# Altium schematic symbol library Component_Schematics.SchLib: 8 symbols
Pins are listed as number, name and electrical type; pins without a type are passive.

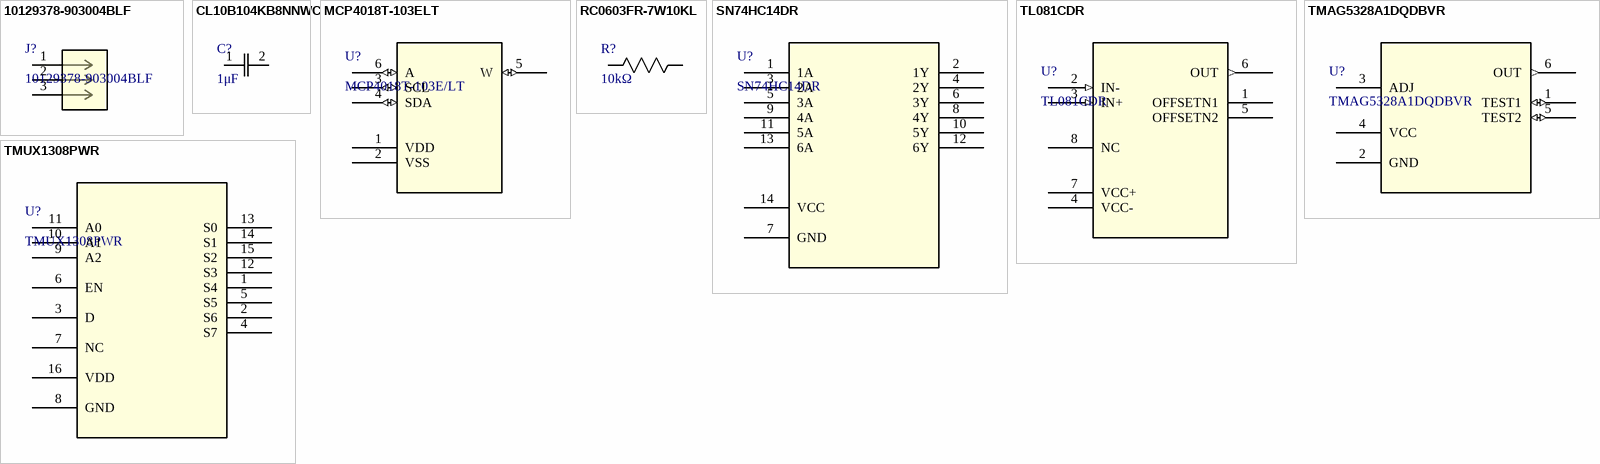
[diagram p0: symbols 10129378-903004BLF to TMUX1308PWR]

## 10129378-903004BLF
designator J?
No Description Available; Mfr_Name: Amphenol ICC; Copyright: Copyright (C) 2024 Ultra Librarian. All rights reserved.; Manufacturer_Part_Number: 10129378-903004BLF; RefDes: RefDes; Type: DEV; Supplier 1: Digikey; Supplier Part Number 1: 10129378-903004BLF-ND
footprint CONN_10129378-903004BLF_AMP
pins: 1, 2, 3

## CL10B104KB8NNWC
designator C?, comment 1μF
No Description Available; Mfr_Name: Samsung; Digi-Key_Part_Number_3: 1276-1935-6-ND; Digi-Key_Part_Number_2: 1276-1935-1-ND; Digi-Key_Part_Number_1: 1276-1935-2-ND; Supplier 1: Digi-Key; Supplier Part Number 1: 1276-1935-6-ND; Supplier 2: Mouser; Supplier Part Number 2: 187-CL10B104KB8NNWC
footprint CAP_CL10_SAM
simulation model C_Capacitor_Default (Model Description)
pins: 1, 2

## MCP4018T-103ELT
designator U?, comment MCP4018T-103E/LT
No Description Available; Mfr_Name: Microchip; Copyright: Copyright (C) 2023 Ultra Librarian. All rights reserved.; Manufacturer_Part_Number: MCP4018T-103E/LT; RefDes: RefDes; Type: DEV; Supplier 1: Mouser; Supplier Part Number 1: 579-MCP4018T103E/LT; Supplier 2: Digi-Key; Supplier Part Number 2: MCP4018T-103E/LTCT-ND
footprint SC70-6_MC_MCH
pins: 1 VDD (power), 2 VSS (power), 3 SCL (io), 4 SDA (io), 5 W (io), 6 A (io)

## RC0603FR-7W10KL
designator R?, comment 10kΩ
No Description Available; Mfr_Name: Yageo; Manufacturer_Part_Number: RC0603FR-7W10KL; Copyright: Copyright (C) 2023 Ultra Librarian. All rights reserved.; RefDes: RefDes; Type: DEV; Supplier 1: Mouser; Supplier Part Number 1: 603-RC0603FR-7W10KL; Supplier 2: Digi-Key; Supplier Part Number 2: 13-RC0603FR-7W10KLCT-ND
footprint RES_RC0603_YAG
simulation model R_Resistor_Default (Model Description)
pins: 1, 2

## SN74HC14DR
designator U?
No Description Available; Mfr_Name: Texas Instruments; Digi-Key_Part_Number_4: 2156-SN74HC14DR-ND; Digi-Key_Part_Number_3: 296-1194-6-ND; Digi-Key_Part_Number_1: 296-1194-1-ND; Digi-Key_Part_Number_2: 296-1194-2-ND; RefDes: RefDes; Type: Type; Supplier 1: Mouser; Supplier Part Number 1: 595-SN74HC14DR; Supplier 2: Digi-Key; Supplier Part Number 2: 296-1194-1-ND
footprint D14
simulation model SN74HC14 (Model Description)
pins: 1 1A, 2 1Y, 3 2A, 4 2Y, 5 3A, 6 3Y, 7 GND (power), 8 4Y, 9 4A, 10 5Y, 11 5A, 12 6Y, 13 6A, 14 VCC (power)

## TL081CDR
designator U?
No Description Available; Mfr_Name: Texas Instruments; Copyright: Copyright (C) 2023 Ultra Librarian. All rights reserved.; Manufacturer_Part_Number: TL081CDR; RefDes: RefDes; Type: DEV; Supplier 1: Mouser; Supplier Part Number 1: 595-TL081CDR; Supplier 2: Digi-Key; Supplier Part Number 2: 296-15001-1-ND
footprint D8
simulation model TL081 (Model Description)
pins: 1 OFFSETN1, 2 IN- (in), 3 IN+ (in), 4 VCC- (power), 5 OFFSETN2, 6 OUT (out), 7 VCC+ (power), 8 NC

## TMAG5328A1DQDBVR
designator U?
No Description Available; Mfr_Name: Texas Instruments; Copyright: Copyright (C) 2023 Ultra Librarian. All rights reserved.; Manufacturer_Part_Number: TMAG5328A1DQDBVR; RefDes: RefDes; Type: DEV; Supplier 1: Digi-Key; Supplier Part Number 1: 296-TMAG5231A1CQDBZRCT-ND
footprint SOT23_DBV_TEX
pins: 1 TEST1 (io), 2 GND (power), 3 ADJ, 4 VCC (power), 5 TEST2 (io), 6 OUT (out)

## TMUX1308PWR
designator U?
No Description Available; Mfr_Name: Texas Instruments; RefDes: RefDes; Type: Type; Supplier 1: Mouser; Supplier Part Number 1: 595-TMUX1308PWR; Supplier 2: Digi-Key; Supplier Part Number 2: 296-TMUX1308PWRCT-ND
footprint TSSOP16_PW_TEX
simulation model TMUX1308 (Model Description)
pins: 1 S4, 2 S6, 3 D, 4 S7, 5 S5, 6 EN, 7 NC, 8 GND (power), 9 A2, 10 A1, 11 A0, 12 S3, 13 S0, 14 S1, 15 S2, 16 VDD (power)